# Altium schematic symbol library component.SchLib: 5 symbols
Pins are listed as number, name and electrical type; pins without a type are passive.

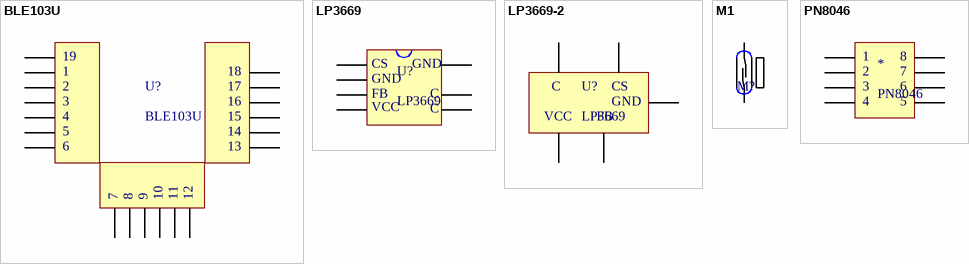
[diagram p0: symbols BLE103U to PN8046]

## BLE103U
designator U?
text: 19; 1; 18; 2; 17; 3; 16; 4; 15; 5; 14; 6; 13; 7; 8; 9; 10; 11; 12

## LP3669
designator U?
text: CS; GND; FB; C; VCC

## LP3669-2
designator U?, comment LP3669
text: C; CS; GND; VCC; FB

## M1
designator M?, comment M?

## PN8046
designator *
text: 1; 8; 2; 7; 3; 6; 4; 5